# Altium footprint library Res_Templates.PcbLib: 1 footprints
Each footprint in its own frame and in the unit in brackets; x right, y up, seen from the top. Pads: shape width x height; smd on the part's side, far side on the other; paste and mask are expansions set on the pad; w line width, h text height; cw(c..) or ccw(c..) is an arc to the next point about the centre after c.
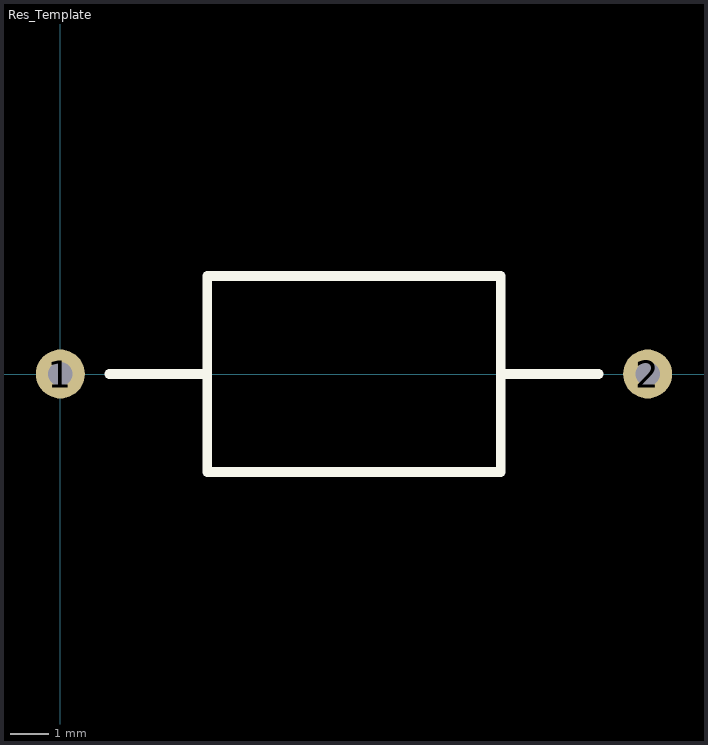
[diagram p0: the footprint, top view; thin cyan lines are the x and y axes]

## Res_Template [mil]
pads (2):
  round 50 hole 25: 1(0,0) 2(600,0)
Top Overlay:
  lines w10: 50,0 150,0 ; 450,0 550,0 ; 150,0 150,100 450,100 450,-100 150,-100 150,0